# Altium footprint library Bumpered QFP - Corner Index.PcbLib: 7 footprints
Each footprint in its own frame and in the unit in brackets; x right, y up, seen from the top. Pads: shape width x height; smd on the part's side, far side on the other; paste and mask are expansions set on the pad; w line width, h text height; cw(c..) or ccw(c..) is an arc to the next point about the centre after c.
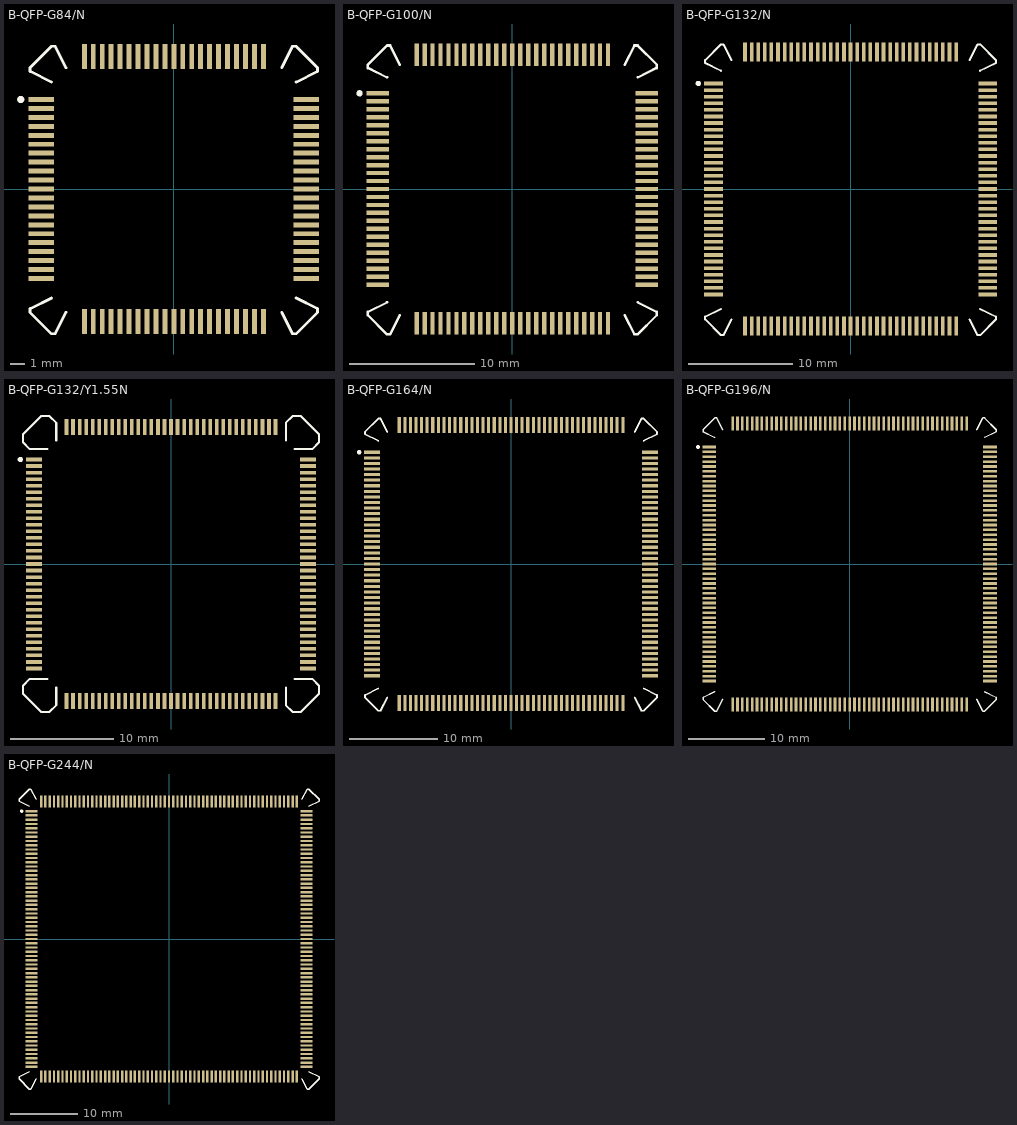
[diagram p0: the footprints below, top view; thin cyan lines are the x and y axes]

## B-QFP-G84/N [mm] "PQFP; 84 Leads; Body 16.5 x 16.5 mm; Pitch 0.635 mm"
height 4.57
pads (84):
  rect 1.8x0.35 smd: 1(-9.4,6.35) 2(-9.4,5.715) 3(-9.4,5.08) 4(-9.4,4.445) 5(-9.4,3.81) 6(-9.4,3.175) 7(-9.4,2.54) 8(-9.4,1.905) 9(-9.4,1.27) 10(-9.4,0.635) 11(-9.4,0) 12(-9.4,-0.635) 13(-9.4,-1.27) 14(-9.4,-1.905) 15(-9.4,-2.54) 16(-9.4,-3.175) 17(-9.4,-3.81) 18(-9.4,-4.445) 19(-9.4,-5.08) 20(-9.4,-5.715) 21(-9.4,-6.35) 43(9.4,-6.35) 44(9.4,-5.715) 45(9.4,-5.08) 46(9.4,-4.445) 47(9.4,-3.81) 48(9.4,-3.175) 49(9.4,-2.54) 50(9.4,-1.905) 51(9.4,-1.27) 52(9.4,-0.635) 53(9.4,0) 54(9.4,0.635) 55(9.4,1.27) 56(9.4,1.905) 57(9.4,2.54) 58(9.4,3.175) 59(9.4,3.81) 60(9.4,4.445) 61(9.4,5.08) 62(9.4,5.715) 63(9.4,6.35)
  rect 0.35x1.8 smd: 22(-6.35,-9.4) 23(-5.715,-9.4) 24(-5.08,-9.4) 25(-4.445,-9.4) 26(-3.81,-9.4) 27(-3.175,-9.4) 28(-2.54,-9.4) 29(-1.905,-9.4) 30(-1.27,-9.4) 31(-0.635,-9.4) 32(0,-9.4) 33(0.635,-9.4) 34(1.27,-9.4) 35(1.905,-9.4) 36(2.54,-9.4) 37(3.175,-9.4) 38(3.81,-9.4) 39(4.445,-9.4) 40(5.08,-9.4) 41(5.715,-9.4) 42(6.35,-9.4) 64(6.35,9.4) 65(5.715,9.4) 66(5.08,9.4) 67(4.445,9.4) 68(3.81,9.4) 69(3.175,9.4) 70(2.54,9.4) 71(1.905,9.4) 72(1.27,9.4) 73(0.635,9.4) 74(0,9.4) 75(-0.635,9.4) 76(-1.27,9.4) 77(-1.905,9.4) 78(-2.54,9.4) 79(-3.175,9.4) 80(-3.81,9.4) 81(-4.445,9.4) 82(-5.08,9.4) 83(-5.715,9.4) 84(-6.35,9.4)
Top Overlay:
  circle w0.25: c-10.86,6.35 r0.125
  lines w0.2: -10.2,-8.497 -8.676,-7.735 ; -10.2,-8.479 -10.2,-8.751 -8.676,-10.275 -8.422,-10.275 -7.66,-8.751 ; -10.2,8.329 -10.2,8.601 -8.676,10.125 -8.422,10.125 -7.66,8.601 ; -10.2,8.347 -8.676,7.585 ; 7.66,-8.751 8.422,-10.275 8.676,-10.275 10.2,-8.751 10.2,-8.479 ; 7.66,8.601 8.422,10.125 8.676,10.125 10.2,8.601 10.2,8.329 ; 8.676,-7.735 10.2,-8.497 ; 8.676,7.585 10.2,8.347

## B-QFP-G100/N [mm] "PQFP; 100 Leads; Body 19 x 19 mm; Pitch 0.635 mm"
height 4.57
pads (100):
  rect 1.8x0.35 smd: 1(-10.7,7.62) 2(-10.7,6.985) 3(-10.7,6.35) 4(-10.7,5.715) 5(-10.7,5.08) 6(-10.7,4.445) 7(-10.7,3.81) 8(-10.7,3.175) 9(-10.7,2.54) 10(-10.7,1.905) 11(-10.7,1.27) 12(-10.7,0.635) 13(-10.7,0) 14(-10.7,-0.635) 15(-10.7,-1.27) 16(-10.7,-1.905) 17(-10.7,-2.54) 18(-10.7,-3.175) 19(-10.7,-3.81) 20(-10.7,-4.445) 21(-10.7,-5.08) 22(-10.7,-5.715) 23(-10.7,-6.35) 24(-10.7,-6.985) 25(-10.7,-7.62) 51(10.7,-7.62) 52(10.7,-6.985) 53(10.7,-6.35) 54(10.7,-5.715) 55(10.7,-5.08) 56(10.7,-4.445) 57(10.7,-3.81) 58(10.7,-3.175) 59(10.7,-2.54) 60(10.7,-1.905) 61(10.7,-1.27) 62(10.7,-0.635) 63(10.7,0) 64(10.7,0.635) 65(10.7,1.27) 66(10.7,1.905) 67(10.7,2.54) 68(10.7,3.175) 69(10.7,3.81) 70(10.7,4.445) 71(10.7,5.08) 72(10.7,5.715) 73(10.7,6.35) 74(10.7,6.985) 75(10.7,7.62)
  rect 0.35x1.8 smd: 26(-7.62,-10.7) 27(-6.985,-10.7) 28(-6.35,-10.7) 29(-5.715,-10.7) 30(-5.08,-10.7) 31(-4.445,-10.7) 32(-3.81,-10.7) 33(-3.175,-10.7) 34(-2.54,-10.7) 35(-1.905,-10.7) 36(-1.27,-10.7) 37(-0.635,-10.7) 38(0,-10.7) 39(0.635,-10.7) 40(1.27,-10.7) 41(1.905,-10.7) 42(2.54,-10.7) 43(3.175,-10.7) 44(3.81,-10.7) 45(4.445,-10.7) 46(5.08,-10.7) 47(5.715,-10.7) 48(6.35,-10.7) 49(6.985,-10.7) 50(7.62,-10.7) 76(7.62,10.7) 77(6.985,10.7) 78(6.35,10.7) 79(5.715,10.7) 80(5.08,10.7) 81(4.445,10.7) 82(3.81,10.7) 83(3.175,10.7) 84(2.54,10.7) 85(1.905,10.7) 86(1.27,10.7) 87(0.635,10.7) 88(0,10.7) 89(-0.635,10.7) 90(-1.27,10.7) 91(-1.905,10.7) 92(-2.54,10.7) 93(-3.175,10.7) 94(-3.81,10.7) 95(-4.445,10.7) 96(-5.08,10.7) 97(-5.715,10.7) 98(-6.35,10.7) 99(-6.985,10.7) 100(-7.62,10.7)
Top Overlay:
  circle w0.25: c-12.16,7.62 r0.125
  lines w0.2: -11.5,-9.797 -9.976,-9.035 ; -11.5,-9.779 -11.5,-10.051 -9.976,-11.575 -9.722,-11.575 -8.96,-10.051 ; -11.5,9.629 -11.5,9.901 -9.976,11.425 -9.722,11.425 -8.96,9.901 ; -11.5,9.647 -9.976,8.885 ; 8.96,-10.051 9.722,-11.575 9.976,-11.575 11.5,-10.051 11.5,-9.779 ; 8.96,9.901 9.722,11.425 9.976,11.425 11.5,9.901 11.5,9.629 ; 9.976,-9.035 11.5,-9.797 ; 9.976,8.885 11.5,9.647

## B-QFP-G132/N [mm] "PQFP; 132 Leads; Body 24 x 24 mm; Pitch 0.635 mm"
height 4.57
pads (132):
  rect 1.8x0.35 smd: 1(-13.2,10.16) 2(-13.2,9.525) 3(-13.2,8.89) 4(-13.2,8.255) 5(-13.2,7.62) 6(-13.2,6.985) 7(-13.2,6.35) 8(-13.2,5.715) 9(-13.2,5.08) 10(-13.2,4.445) 11(-13.2,3.81) 12(-13.2,3.175) 13(-13.2,2.54) 14(-13.2,1.905) 15(-13.2,1.27) 16(-13.2,0.635) 17(-13.2,0) 18(-13.2,-0.635) 19(-13.2,-1.27) 20(-13.2,-1.905) 21(-13.2,-2.54) 22(-13.2,-3.175) 23(-13.2,-3.81) 24(-13.2,-4.445) 25(-13.2,-5.08) 26(-13.2,-5.715) 27(-13.2,-6.35) 28(-13.2,-6.985) 29(-13.2,-7.62) 30(-13.2,-8.255) 31(-13.2,-8.89) 32(-13.2,-9.525) 33(-13.2,-10.16) 67(13.2,-10.16) 68(13.2,-9.525) 69(13.2,-8.89) 70(13.2,-8.255) 71(13.2,-7.62) 72(13.2,-6.985) 73(13.2,-6.35) 74(13.2,-5.715) 75(13.2,-5.08) 76(13.2,-4.445) 77(13.2,-3.81) 78(13.2,-3.175) 79(13.2,-2.54) 80(13.2,-1.905) 81(13.2,-1.27) 82(13.2,-0.635) 83(13.2,0) 84(13.2,0.635) 85(13.2,1.27) 86(13.2,1.905) 87(13.2,2.54) 88(13.2,3.175) 89(13.2,3.81) 90(13.2,4.445) 91(13.2,5.08) 92(13.2,5.715) 93(13.2,6.35) 94(13.2,6.985) 95(13.2,7.62) 96(13.2,8.255) 97(13.2,8.89) 98(13.2,9.525) 99(13.2,10.16)
  rect 0.35x1.8 smd: 34(-10.16,-13.2) 35(-9.525,-13.2) 36(-8.89,-13.2) 37(-8.255,-13.2) 38(-7.62,-13.2) 39(-6.985,-13.2) 40(-6.35,-13.2) 41(-5.715,-13.2) 42(-5.08,-13.2) 43(-4.445,-13.2) 44(-3.81,-13.2) 45(-3.175,-13.2) 46(-2.54,-13.2) 47(-1.905,-13.2) 48(-1.27,-13.2) 49(-0.635,-13.2) 50(0,-13.2) 51(0.635,-13.2) 52(1.27,-13.2) 53(1.905,-13.2) 54(2.54,-13.2) 55(3.175,-13.2) 56(3.81,-13.2) 57(4.445,-13.2) 58(5.08,-13.2) 59(5.715,-13.2) 60(6.35,-13.2) 61(6.985,-13.2) 62(7.62,-13.2) 63(8.255,-13.2) 64(8.89,-13.2) 65(9.525,-13.2) 66(10.16,-13.2) 100(10.16,13.2) 101(9.525,13.2) 102(8.89,13.2) 103(8.255,13.2) 104(7.62,13.2) 105(6.985,13.2) 106(6.35,13.2) 107(5.715,13.2) 108(5.08,13.2) 109(4.445,13.2) 110(3.81,13.2) 111(3.175,13.2) 112(2.54,13.2) 113(1.905,13.2) 114(1.27,13.2) 115(0.635,13.2) 116(0,13.2) 117(-0.635,13.2) 118(-1.27,13.2) 119(-1.905,13.2) 120(-2.54,13.2) 121(-3.175,13.2) 122(-3.81,13.2) 123(-4.445,13.2) 124(-5.08,13.2) 125(-5.715,13.2) 126(-6.35,13.2) 127(-6.985,13.2) 128(-7.62,13.2) 129(-8.255,13.2) 130(-8.89,13.2) 131(-9.525,13.2) 132(-10.16,13.2)
Top Overlay:
  circle w0.25: c-14.66,10.16 r0.125
  lines w0.2: -14,-12.297 -12.476,-11.535 ; -14,-12.279 -14,-12.551 -12.476,-14.075 -12.222,-14.075 -11.46,-12.551 ; -14,12.129 -14,12.401 -12.476,13.925 -12.222,13.925 -11.46,12.401 ; -14,12.147 -12.476,11.385 ; 11.46,-12.551 12.222,-14.075 12.476,-14.075 14,-12.551 14,-12.279 ; 11.46,12.401 12.222,13.925 12.476,13.925 14,12.401 14,12.129 ; 12.476,-11.535 14,-12.297 ; 12.476,11.385 14,12.147

## B-QFP-G132/Y1.55N [mm] "132-Pin Plastic Quad Flat Pack (PQFP)"
height 4.57
pads (132):
  rect 1.55x0.35 smd: 1(-13.33,10.16) 2(-13.33,9.525) 3(-13.33,8.89) 4(-13.33,8.255) 5(-13.33,7.62) 6(-13.33,6.985) 7(-13.33,6.35) 8(-13.33,5.715) 9(-13.33,5.08) 10(-13.33,4.445) 11(-13.33,3.81) 12(-13.33,3.175) 13(-13.33,2.54) 14(-13.33,1.905) 15(-13.33,1.27) 16(-13.33,0.635) 17(-13.33,0) 18(-13.33,-0.635) 19(-13.33,-1.27) 20(-13.33,-1.905) 21(-13.33,-2.54) 22(-13.33,-3.175) 23(-13.33,-3.81) 24(-13.33,-4.445) 25(-13.33,-5.08) 26(-13.33,-5.715) 27(-13.33,-6.35) 28(-13.33,-6.985) 29(-13.33,-7.62) 30(-13.33,-8.255) 31(-13.33,-8.89) 32(-13.33,-9.525) 33(-13.33,-10.16) 67(13.33,-10.16) 68(13.33,-9.525) 69(13.33,-8.89) 70(13.33,-8.255) 71(13.33,-7.62) 72(13.33,-6.985) 73(13.33,-6.35) 74(13.33,-5.715) 75(13.33,-5.08) 76(13.33,-4.445) 77(13.33,-3.81) 78(13.33,-3.175) 79(13.33,-2.54) 80(13.33,-1.905) 81(13.33,-1.27) 82(13.33,-0.635) 83(13.33,0) 84(13.33,0.635) 85(13.33,1.27) 86(13.33,1.905) 87(13.33,2.54) 88(13.33,3.175) 89(13.33,3.81) 90(13.33,4.445) 91(13.33,5.08) 92(13.33,5.715) 93(13.33,6.35) 94(13.33,6.985) 95(13.33,7.62) 96(13.33,8.255) 97(13.33,8.89) 98(13.33,9.525) 99(13.33,10.16)
  rect 0.35x1.55 smd: 34(-10.16,-13.33) 35(-9.525,-13.33) 36(-8.89,-13.33) 37(-8.255,-13.33) 38(-7.62,-13.33) 39(-6.985,-13.33) 40(-6.35,-13.33) 41(-5.715,-13.33) 42(-5.08,-13.33) 43(-4.445,-13.33) 44(-3.81,-13.33) 45(-3.175,-13.33) 46(-2.54,-13.33) 47(-1.905,-13.33) 48(-1.27,-13.33) 49(-0.635,-13.33) 50(0,-13.33) 51(0.635,-13.33) 52(1.27,-13.33) 53(1.905,-13.33) 54(2.54,-13.33) 55(3.175,-13.33) 56(3.81,-13.33) 57(4.445,-13.33) 58(5.08,-13.33) 59(5.715,-13.33) 60(6.35,-13.33) 61(6.985,-13.33) 62(7.62,-13.33) 63(8.255,-13.33) 64(8.89,-13.33) 65(9.525,-13.33) 66(10.16,-13.33) 100(10.16,13.33) 101(9.525,13.33) 102(8.89,13.33) 103(8.255,13.33) 104(7.62,13.33) 105(6.985,13.33) 106(6.35,13.33) 107(5.715,13.33) 108(5.08,13.33) 109(4.445,13.33) 110(3.81,13.33) 111(3.175,13.33) 112(2.54,13.33) 113(1.905,13.33) 114(1.27,13.33) 115(0.635,13.33) 116(0,13.33) 117(-0.635,13.33) 118(-1.27,13.33) 119(-1.905,13.33) 120(-2.54,13.33) 121(-3.175,13.33) 122(-3.81,13.33) 123(-4.445,13.33) 124(-5.08,13.33) 125(-5.715,13.33) 126(-6.35,13.33) 127(-6.985,13.33) 128(-7.62,13.33) 129(-8.255,13.33) 130(-8.89,13.33) 131(-9.525,13.33) 132(-10.16,13.33)
Top Overlay:
  circle w0.25: c-14.655,10.16 r0.125
  lines w0.2: -12.02,-11.16 -13.717,-11.16 -14.387,-11.83 -14.387,-12.63 -12.63,-14.387 -11.83,-14.387 -11.16,-13.717 -11.16,-12.02 ; -12.02,11.16 -13.718,11.16 -14.387,11.83 -14.387,12.63 -12.63,14.388 -11.83,14.388 -11.16,13.718 -11.16,12.02 ; 11.16,-12.02 11.16,-13.717 11.83,-14.387 12.63,-14.387 14.387,-12.63 14.387,-11.83 13.718,-11.16 12.02,-11.16 ; 11.16,12.02 11.16,13.718 11.83,14.388 12.63,14.388 14.387,12.63 14.387,11.83 13.717,11.16 12.02,11.16

## B-QFP-G164/N [mm] "PQFP; 164 Leads; Body 29 x 29 mm; Pitch 0.635 mm"
height 4.75
pads (164):
  rect 1.8x0.35 smd: 1(-15.8,12.7) 2(-15.8,12.065) 3(-15.8,11.43) 4(-15.8,10.795) 5(-15.8,10.16) 6(-15.8,9.525) 7(-15.8,8.89) 8(-15.8,8.255) 9(-15.8,7.62) 10(-15.8,6.985) 11(-15.8,6.35) 12(-15.8,5.715) 13(-15.8,5.08) 14(-15.8,4.445) 15(-15.8,3.81) 16(-15.8,3.175) 17(-15.8,2.54) 18(-15.8,1.905) 19(-15.8,1.27) 20(-15.8,0.635) 21(-15.8,0) 22(-15.8,-0.635) 23(-15.8,-1.27) 24(-15.8,-1.905) 25(-15.8,-2.54) 26(-15.8,-3.175) 27(-15.8,-3.81) 28(-15.8,-4.445) 29(-15.8,-5.08) 30(-15.8,-5.715) 31(-15.8,-6.35) 32(-15.8,-6.985) 33(-15.8,-7.62) 34(-15.8,-8.255) 35(-15.8,-8.89) 36(-15.8,-9.525) 37(-15.8,-10.16) 38(-15.8,-10.795) 39(-15.8,-11.43) 40(-15.8,-12.065) 41(-15.8,-12.7) 83(15.8,-12.7) 84(15.8,-12.065) 85(15.8,-11.43) 86(15.8,-10.795) 87(15.8,-10.16) 88(15.8,-9.525) 89(15.8,-8.89) 90(15.8,-8.255) 91(15.8,-7.62) 92(15.8,-6.985) 93(15.8,-6.35) 94(15.8,-5.715) 95(15.8,-5.08) 96(15.8,-4.445) 97(15.8,-3.81) 98(15.8,-3.175) 99(15.8,-2.54) 100(15.8,-1.905) 101(15.8,-1.27) 102(15.8,-0.635) 103(15.8,0) 104(15.8,0.635) 105(15.8,1.27) 106(15.8,1.905) 107(15.8,2.54) 108(15.8,3.175) 109(15.8,3.81) 110(15.8,4.445) 111(15.8,5.08) 112(15.8,5.715) 113(15.8,6.35) 114(15.8,6.985) 115(15.8,7.62) 116(15.8,8.255) 117(15.8,8.89) 118(15.8,9.525) 119(15.8,10.16) 120(15.8,10.795) 121(15.8,11.43) 122(15.8,12.065) 123(15.8,12.7)
  rect 0.35x1.8 smd: 42(-12.7,-15.8) 43(-12.065,-15.8) 44(-11.43,-15.8) 45(-10.795,-15.8) 46(-10.16,-15.8) 47(-9.525,-15.8) 48(-8.89,-15.8) 49(-8.255,-15.8) 50(-7.62,-15.8) 51(-6.985,-15.8) 52(-6.35,-15.8) 53(-5.715,-15.8) 54(-5.08,-15.8) 55(-4.445,-15.8) 56(-3.81,-15.8) 57(-3.175,-15.8) 58(-2.54,-15.8) 59(-1.905,-15.8) 60(-1.27,-15.8) 61(-0.635,-15.8) 62(0,-15.8) 63(0.635,-15.8) 64(1.27,-15.8) 65(1.905,-15.8) 66(2.54,-15.8) 67(3.175,-15.8) 68(3.81,-15.8) 69(4.445,-15.8) 70(5.08,-15.8) 71(5.715,-15.8) 72(6.35,-15.8) 73(6.985,-15.8) 74(7.62,-15.8) 75(8.255,-15.8) 76(8.89,-15.8) 77(9.525,-15.8) 78(10.16,-15.8) 79(10.795,-15.8) 80(11.43,-15.8) 81(12.065,-15.8) 82(12.7,-15.8) 124(12.7,15.8) 125(12.065,15.8) 126(11.43,15.8) 127(10.795,15.8) 128(10.16,15.8) 129(9.525,15.8) 130(8.89,15.8) 131(8.255,15.8) 132(7.62,15.8) 133(6.985,15.8) 134(6.35,15.8) 135(5.715,15.8) 136(5.08,15.8) 137(4.445,15.8) 138(3.81,15.8) 139(3.175,15.8) 140(2.54,15.8) 141(1.905,15.8) 142(1.27,15.8) 143(0.635,15.8) 144(0,15.8) 145(-0.635,15.8) 146(-1.27,15.8) 147(-1.905,15.8) 148(-2.54,15.8) 149(-3.175,15.8) 150(-3.81,15.8) 151(-4.445,15.8) 152(-5.08,15.8) 153(-5.715,15.8) 154(-6.35,15.8) 155(-6.985,15.8) 156(-7.62,15.8) 157(-8.255,15.8) 158(-8.89,15.8) 159(-9.525,15.8) 160(-10.16,15.8) 161(-10.795,15.8) 162(-11.43,15.8) 163(-12.065,15.8) 164(-12.7,15.8)
Top Overlay:
  circle w0.25: c-17.26,12.7 r0.125
  lines w0.2: -16.6,-14.897 -15.076,-14.135 ; -16.6,-14.879 -16.6,-15.151 -15.076,-16.675 -14.822,-16.675 -14.06,-15.151 ; -16.6,14.729 -16.6,15.001 -15.076,16.525 -14.822,16.525 -14.06,15.001 ; -16.6,14.747 -15.076,13.985 ; 14.06,-15.151 14.822,-16.675 15.076,-16.675 16.6,-15.151 16.6,-14.879 ; 14.06,15.001 14.822,16.525 15.076,16.525 16.6,15.001 16.6,14.729 ; 15.076,-14.135 16.6,-14.897 ; 15.076,13.985 16.6,14.747

## B-QFP-G196/N [mm] "PQFP; 196 Leads; Body 34 x 34 mm; Pitch 0.635 mm"
height 4.57
pads (196):
  rect 1.8x0.35 smd: 1(-18.3,15.24) 2(-18.3,14.605) 3(-18.3,13.97) 4(-18.3,13.335) 5(-18.3,12.7) 6(-18.3,12.065) 7(-18.3,11.43) 8(-18.3,10.795) 9(-18.3,10.16) 10(-18.3,9.525) 11(-18.3,8.89) 12(-18.3,8.255) 13(-18.3,7.62) 14(-18.3,6.985) 15(-18.3,6.35) 16(-18.3,5.715) 17(-18.3,5.08) 18(-18.3,4.445) 19(-18.3,3.81) 20(-18.3,3.175) 21(-18.3,2.54) 22(-18.3,1.905) 23(-18.3,1.27) 24(-18.3,0.635) 25(-18.3,0) 26(-18.3,-0.635) 27(-18.3,-1.27) 28(-18.3,-1.905) 29(-18.3,-2.54) 30(-18.3,-3.175) 31(-18.3,-3.81) 32(-18.3,-4.445) 33(-18.3,-5.08) 34(-18.3,-5.715) 35(-18.3,-6.35) 36(-18.3,-6.985) 37(-18.3,-7.62) 38(-18.3,-8.255) 39(-18.3,-8.89) 40(-18.3,-9.525) 41(-18.3,-10.16) 42(-18.3,-10.795) 43(-18.3,-11.43) 44(-18.3,-12.065) 45(-18.3,-12.7) 46(-18.3,-13.335) 47(-18.3,-13.97) 48(-18.3,-14.605) 49(-18.3,-15.24) 99(18.3,-15.24) 100(18.3,-14.605) 101(18.3,-13.97) 102(18.3,-13.335) 103(18.3,-12.7) 104(18.3,-12.065) 105(18.3,-11.43) 106(18.3,-10.795) 107(18.3,-10.16) 108(18.3,-9.525) 109(18.3,-8.89) 110(18.3,-8.255) 111(18.3,-7.62) 112(18.3,-6.985) 113(18.3,-6.35) 114(18.3,-5.715) 115(18.3,-5.08) 116(18.3,-4.445) 117(18.3,-3.81) 118(18.3,-3.175) 119(18.3,-2.54) 120(18.3,-1.905) 121(18.3,-1.27) 122(18.3,-0.635) 123(18.3,0) 124(18.3,0.635) 125(18.3,1.27) 126(18.3,1.905) 127(18.3,2.54) 128(18.3,3.175) 129(18.3,3.81) 130(18.3,4.445) 131(18.3,5.08) 132(18.3,5.715) 133(18.3,6.35) 134(18.3,6.985) 135(18.3,7.62) 136(18.3,8.255) 137(18.3,8.89) 138(18.3,9.525) 139(18.3,10.16) 140(18.3,10.795) 141(18.3,11.43) 142(18.3,12.065) 143(18.3,12.7) 144(18.3,13.335) 145(18.3,13.97) 146(18.3,14.605) 147(18.3,15.24)
  rect 0.35x1.8 smd: 50(-15.24,-18.3) 51(-14.605,-18.3) 52(-13.97,-18.3) 53(-13.335,-18.3) 54(-12.7,-18.3) 55(-12.065,-18.3) 56(-11.43,-18.3) 57(-10.795,-18.3) 58(-10.16,-18.3) 59(-9.525,-18.3) 60(-8.89,-18.3) 61(-8.255,-18.3) 62(-7.62,-18.3) 63(-6.985,-18.3) 64(-6.35,-18.3) 65(-5.715,-18.3) 66(-5.08,-18.3) 67(-4.445,-18.3) 68(-3.81,-18.3) 69(-3.175,-18.3) 70(-2.54,-18.3) 71(-1.905,-18.3) 72(-1.27,-18.3) 73(-0.635,-18.3) 74(0,-18.3) 75(0.635,-18.3) 76(1.27,-18.3) 77(1.905,-18.3) 78(2.54,-18.3) 79(3.175,-18.3) 80(3.81,-18.3) 81(4.445,-18.3) 82(5.08,-18.3) 83(5.715,-18.3) 84(6.35,-18.3) 85(6.985,-18.3) 86(7.62,-18.3) 87(8.255,-18.3) 88(8.89,-18.3) 89(9.525,-18.3) 90(10.16,-18.3) 91(10.795,-18.3) 92(11.43,-18.3) 93(12.065,-18.3) 94(12.7,-18.3) 95(13.335,-18.3) 96(13.97,-18.3) 97(14.605,-18.3) 98(15.24,-18.3) 148(15.24,18.3) 149(14.605,18.3) 150(13.97,18.3) 151(13.335,18.3) 152(12.7,18.3) 153(12.065,18.3) 154(11.43,18.3) 155(10.795,18.3) 156(10.16,18.3) 157(9.525,18.3) 158(8.89,18.3) 159(8.255,18.3) 160(7.62,18.3) 161(6.985,18.3) 162(6.35,18.3) 163(5.715,18.3) 164(5.08,18.3) 165(4.445,18.3) 166(3.81,18.3) 167(3.175,18.3) 168(2.54,18.3) 169(1.905,18.3) 170(1.27,18.3) 171(0.635,18.3) 172(0,18.3) 173(-0.635,18.3) 174(-1.27,18.3) 175(-1.905,18.3) 176(-2.54,18.3) 177(-3.175,18.3) 178(-3.81,18.3) 179(-4.445,18.3) 180(-5.08,18.3) 181(-5.715,18.3) 182(-6.35,18.3) 183(-6.985,18.3) 184(-7.62,18.3) 185(-8.255,18.3) 186(-8.89,18.3) 187(-9.525,18.3) 188(-10.16,18.3) 189(-10.795,18.3) 190(-11.43,18.3) 191(-12.065,18.3) 192(-12.7,18.3) 193(-13.335,18.3) 194(-13.97,18.3) 195(-14.605,18.3) 196(-15.24,18.3)
Top Overlay:
  circle w0.25: c-19.76,15.24 r0.125
  lines w0.2: -19.1,-17.397 -17.576,-16.635 ; -19.1,-17.379 -19.1,-17.651 -17.576,-19.175 -17.322,-19.175 -16.56,-17.651 ; -19.1,17.229 -19.1,17.501 -17.576,19.025 -17.322,19.025 -16.56,17.501 ; -19.1,17.247 -17.576,16.485 ; 16.56,-17.651 17.322,-19.175 17.576,-19.175 19.1,-17.651 19.1,-17.379 ; 16.56,17.501 17.322,19.025 17.576,19.025 19.1,17.501 19.1,17.229 ; 17.576,-16.635 19.1,-17.397 ; 17.576,16.485 19.1,17.247

## B-QFP-G244/N [mm] "PQFP; 244 Leads; Body 45 x 45 mm; Pitch 0.635 mm"
height 4.57
pads (244):
  rect 1.8x0.35 smd: 1(-20.5,19.05) 2(-20.5,18.415) 3(-20.5,17.78) 4(-20.5,17.145) 5(-20.5,16.51) 6(-20.5,15.875) 7(-20.5,15.24) 8(-20.5,14.605) 9(-20.5,13.97) 10(-20.5,13.335) 11(-20.5,12.7) 12(-20.5,12.065) 13(-20.5,11.43) 14(-20.5,10.795) 15(-20.5,10.16) 16(-20.5,9.525) 17(-20.5,8.89) 18(-20.5,8.255) 19(-20.5,7.62) 20(-20.5,6.985) 21(-20.5,6.35) 22(-20.5,5.715) 23(-20.5,5.08) 24(-20.5,4.445) 25(-20.5,3.81) 26(-20.5,3.175) 27(-20.5,2.54) 28(-20.5,1.905) 29(-20.5,1.27) 30(-20.5,0.635) 31(-20.5,0) 32(-20.5,-0.635) 33(-20.5,-1.27) 34(-20.5,-1.905) 35(-20.5,-2.54) 36(-20.5,-3.175) 37(-20.5,-3.81) 38(-20.5,-4.445) 39(-20.5,-5.08) 40(-20.5,-5.715) 41(-20.5,-6.35) 42(-20.5,-6.985) 43(-20.5,-7.62) 44(-20.5,-8.255) 45(-20.5,-8.89) 46(-20.5,-9.525) 47(-20.5,-10.16) 48(-20.5,-10.795) 49(-20.5,-11.43) 50(-20.5,-12.065) 51(-20.5,-12.7) 52(-20.5,-13.335) 53(-20.5,-13.97) 54(-20.5,-14.605) 55(-20.5,-15.24) 56(-20.5,-15.875) 57(-20.5,-16.51) 58(-20.5,-17.145) 59(-20.5,-17.78) 60(-20.5,-18.415) 61(-20.5,-19.05) 123(20.5,-19.05) 124(20.5,-18.415) 125(20.5,-17.78) 126(20.5,-17.145) 127(20.5,-16.51) 128(20.5,-15.875) 129(20.5,-15.24) 130(20.5,-14.605) 131(20.5,-13.97) 132(20.5,-13.335) 133(20.5,-12.7) 134(20.5,-12.065) 135(20.5,-11.43) 136(20.5,-10.795) 137(20.5,-10.16) 138(20.5,-9.525) 139(20.5,-8.89) 140(20.5,-8.255) 141(20.5,-7.62) 142(20.5,-6.985) 143(20.5,-6.35) 144(20.5,-5.715) 145(20.5,-5.08) 146(20.5,-4.445) 147(20.5,-3.81) 148(20.5,-3.175) 149(20.5,-2.54) 150(20.5,-1.905) 151(20.5,-1.27) 152(20.5,-0.635) 153(20.5,0) 154(20.5,0.635) 155(20.5,1.27) 156(20.5,1.905) 157(20.5,2.54) 158(20.5,3.175) 159(20.5,3.81) 160(20.5,4.445) 161(20.5,5.08) 162(20.5,5.715) 163(20.5,6.35) 164(20.5,6.985) 165(20.5,7.62) 166(20.5,8.255) 167(20.5,8.89) 168(20.5,9.525) 169(20.5,10.16) 170(20.5,10.795) 171(20.5,11.43) 172(20.5,12.065) 173(20.5,12.7) 174(20.5,13.335) 175(20.5,13.97) 176(20.5,14.605) 177(20.5,15.24) 178(20.5,15.875) 179(20.5,16.51) 180(20.5,17.145) 181(20.5,17.78) 182(20.5,18.415) 183(20.5,19.05)
  rect 0.35x1.8 smd: 62(-19.05,-20.5) 63(-18.415,-20.5) 64(-17.78,-20.5) 65(-17.145,-20.5) 66(-16.51,-20.5) 67(-15.875,-20.5) 68(-15.24,-20.5) 69(-14.605,-20.5) 70(-13.97,-20.5) 71(-13.335,-20.5) 72(-12.7,-20.5) 73(-12.065,-20.5) 74(-11.43,-20.5) 75(-10.795,-20.5) 76(-10.16,-20.5) 77(-9.525,-20.5) 78(-8.89,-20.5) 79(-8.255,-20.5) 80(-7.62,-20.5) 81(-6.985,-20.5) 82(-6.35,-20.5) 83(-5.715,-20.5) 84(-5.08,-20.5) 85(-4.445,-20.5) 86(-3.81,-20.5) 87(-3.175,-20.5) 88(-2.54,-20.5) 89(-1.905,-20.5) 90(-1.27,-20.5) 91(-0.635,-20.5) 92(0,-20.5) 93(0.635,-20.5) 94(1.27,-20.5) 95(1.905,-20.5) 96(2.54,-20.5) 97(3.175,-20.5) 98(3.81,-20.5) 99(4.445,-20.5) 100(5.08,-20.5) 101(5.715,-20.5) 102(6.35,-20.5) 103(6.985,-20.5) 104(7.62,-20.5) 105(8.255,-20.5) 106(8.89,-20.5) 107(9.525,-20.5) 108(10.16,-20.5) 109(10.795,-20.5) 110(11.43,-20.5) 111(12.065,-20.5) 112(12.7,-20.5) 113(13.335,-20.5) 114(13.97,-20.5) 115(14.605,-20.5) 116(15.24,-20.5) 117(15.875,-20.5) 118(16.51,-20.5) 119(17.145,-20.5) 120(17.78,-20.5) 121(18.415,-20.5) 122(19.05,-20.5) 184(19.05,20.5) 185(18.415,20.5) 186(17.78,20.5) 187(17.145,20.5) 188(16.51,20.5) 189(15.875,20.5) 190(15.24,20.5) 191(14.605,20.5) 192(13.97,20.5) 193(13.335,20.5) 194(12.7,20.5) 195(12.065,20.5) 196(11.43,20.5) 197(10.795,20.5) 198(10.16,20.5) 199(9.525,20.5) 200(8.89,20.5) 201(8.255,20.5) 202(7.62,20.5) 203(6.985,20.5) 204(6.35,20.5) 205(5.715,20.5) 206(5.08,20.5) 207(4.445,20.5) 208(3.81,20.5) 209(3.175,20.5) 210(2.54,20.5) 211(1.905,20.5) 212(1.27,20.5) 213(0.635,20.5) 214(0,20.5) 215(-0.635,20.5) 216(-1.27,20.5) 217(-1.905,20.5) 218(-2.54,20.5) 219(-3.175,20.5) 220(-3.81,20.5) 221(-4.445,20.5) 222(-5.08,20.5) 223(-5.715,20.5) 224(-6.35,20.5) 225(-6.985,20.5) 226(-7.62,20.5) 227(-8.255,20.5) 228(-8.89,20.5) 229(-9.525,20.5) 230(-10.16,20.5) 231(-10.795,20.5) 232(-11.43,20.5) 233(-12.065,20.5) 234(-12.7,20.5) 235(-13.335,20.5) 236(-13.97,20.5) 237(-14.605,20.5) 238(-15.24,20.5) 239(-15.875,20.5) 240(-16.51,20.5) 241(-17.145,20.5) 242(-17.78,20.5) 243(-18.415,20.5) 244(-19.05,20.5)
Top Overlay:
  circle w0.25: c-21.96,19.05 r0.125
  lines w0.2: -20.828,-19.794 -22.352,-20.556 -22.352,-20.828 -20.828,-22.352 -20.574,-22.352 -19.812,-20.828 ; -20.828,19.794 -22.352,20.556 -22.352,20.828 -20.828,22.352 -20.574,22.352 -19.812,20.828 ; 19.812,-20.828 20.574,-22.352 20.828,-22.352 22.352,-20.828 22.352,-20.556 20.828,-19.794 ; 19.812,20.828 20.574,22.352 20.828,22.352 22.352,20.828 22.352,20.556 20.828,19.794